# EAGLE library part LSM303DLHC (library Strutz Electronic Industries)
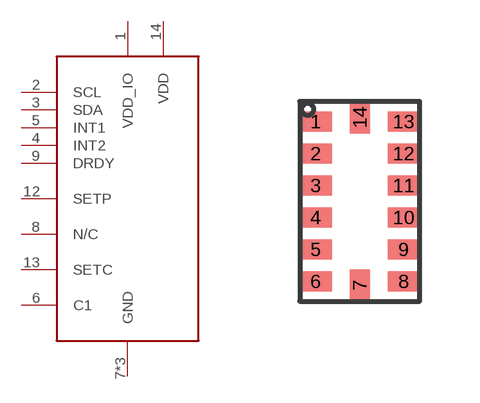
[diagram p51: symbol with the pads of LGA-14_3X5; footprint LGA-14_3X5]

Designator prefix -

## LSM303DLHCLGA  [LGA-14_3X5]
1  VDD_IO
2  SCL
3  SDA
4  INT2
5  INT1
6  C1
7  GND
8  N/C
9  DRDY
10  GND
11  GND
12  SETP
13  SETC
14  VDD

## Footprint LGA-14_3X5 (pad centres in mm)
smd 0.8 x 0.5: 1 -1.1,2; 2 -1.1,1.2; 3 -1.1,0.4; 4 -1.1,-0.4; 5 -1.1,-1.2; 6 -1.1,-2; 8 1.1,-2; 9 1.1,-1.2; 10 1.1,-0.4; 11 1.1,0.4; 12 1.1,1.2; 13 1.1,2
smd 0.5 x 0.8: 7 0,-2.1; 14 0,2.1